# EAGLE library part TEENSY-LC (library eagle-library-engr-245-s22)
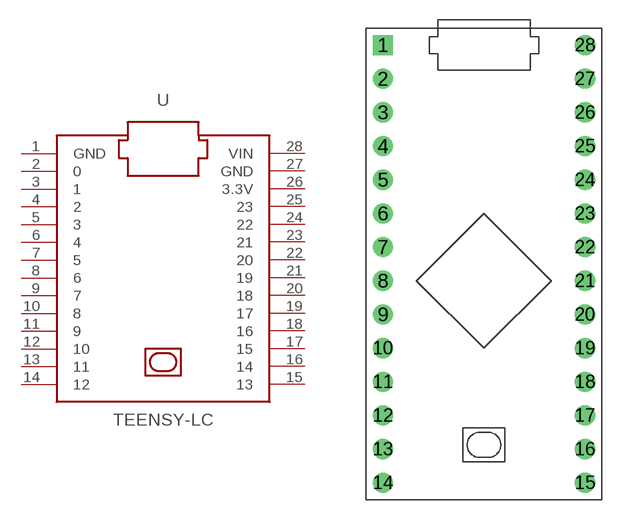
[diagram p2: symbol with the pads of TEENSY-LC; footprint TEENSY-LC]

Designator prefix U

## TEENSY-LC  [TEENSY-LC]
1  GND
2  0
3  1
4  2
5  3
6  4
7  5
8  6
9  7
10  8
11  9
12  10
13  11
14  12
15  13
16  14
17  15
18  16
19  17
20  18
21  19
22  20
23  21
24  22
25  23
26  3.3V
27  GND
28  VIN

## Footprint TEENSY-LC (pad centres in mm)
Designed for the Teensy-LC, microcontroller MKL26Z64, OSH Park edition. Leaves out extra pins on the bottom and side.
drill 1.016 pad 1.524 square: 1 -7.62,15.24
drill 1.016 pad 1.524: 2 -7.62,12.7; 3 -7.62,10.16; 4 -7.62,7.62; 5 -7.62,5.08; 6 -7.62,2.54; 7 -7.62,0; 8 -7.62,-2.54; 9 -7.62,-5.08; 10 -7.62,-7.62; 11 -7.62,-10.16; 12 -7.62,-12.7; 13 -7.62,-15.24; 14 -7.62,-17.78; 15 7.62,-17.78; 16 7.62,-15.24; 17 7.62,-12.7; 18 7.62,-10.16; 19 7.62,-7.62; 20 7.62,-5.08; 21 7.62,-2.54; 22 7.62,0; 23 7.62,2.54; 24 7.62,5.08; 25 7.62,7.62; 26 7.62,10.16; 27 7.62,12.7; 28 7.62,15.24